# EAGLE library part D-SUB25- (library con-thomas-betts)
D-Subminiatur Connector Source: Electronioc Interconnects European Edition 1998
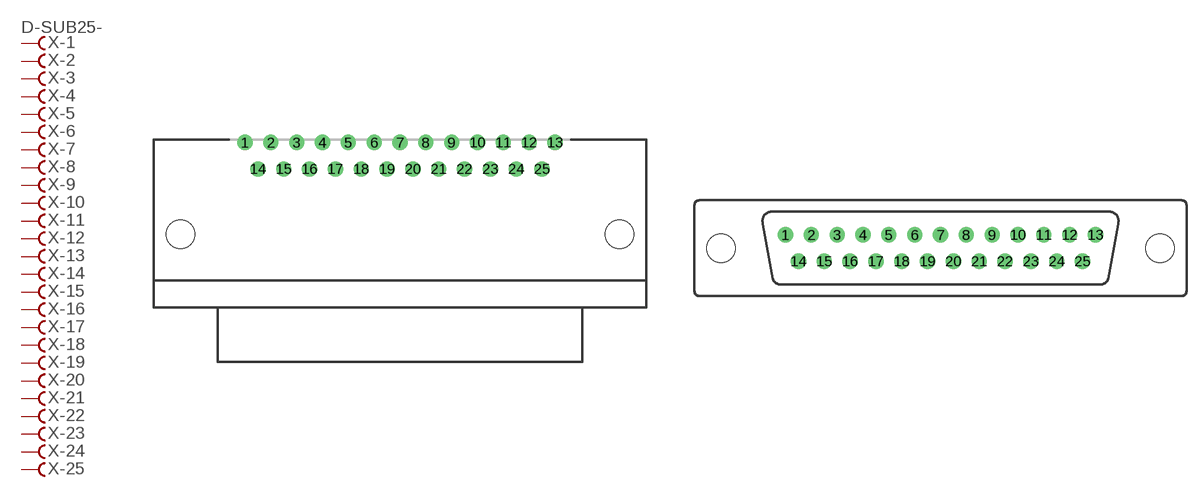
[diagram p21: symbol with the pads of H2M25RA; footprints H2M25RA, H2M25ST]

Designator prefix X; gates -1=FV -2=F -3=F -4=F -5=F -6=F -7=F -8=F -9=F -10=F -11=F -12=F -13=F -14=F -15=F -16=F -17=F -18=F -19=F -20=F -21=F -22=F -23=F -24=F -25=F

## D-SUB25-H2M25RA  [H2M25RA]
1  -1:F  pas
2  -2:F  pas
3  -3:F  pas
4  -4:F  pas
5  -5:F  pas
6  -6:F  pas
7  -7:F  pas
8  -8:F  pas
9  -9:F  pas
10  -10:F  pas
11  -11:F  pas
12  -12:F  pas
13  -13:F  pas
14  -14:F  pas
15  -15:F  pas
16  -16:F  pas
17  -17:F  pas
18  -18:F  pas
19  -19:F  pas
20  -20:F  pas
21  -21:F  pas
22  -22:F  pas
23  -23:F  pas
24  -24:F  pas
25  -25:F  pas

## D-SUB25-H2M25ST  [H2M25ST]
Pads as for H2M25RA

## D-SUB25-H2R25RA  [H2R25RA]
Pads as for H2M25RA

## D-SUB25-H2R25ST  [H2R25ST]
Pads as for H2M25RA

## D-SUB25-H3M25RA  [H3M25RA]
Pads as for H2M25RA

## D-SUB25-H5M25RA  [H5M25RA]
Pads as for H2M25RA

## D-SUB25-H5R25RA  [H5R25RA]
Pads as for H2M25RA

## Footprint H2M25RA (pad centres in mm)
THOMAS&BETTS H2M25RA29A
drill 1.092 round: 1 -16.612,7.925; 2 -13.843,7.925; 3 -11.074,7.925; 4 -8.306,7.925; 5 -5.537,7.925; 6 -2.769,7.925; 7 0,7.925; 8 2.769,7.925; 9 5.537,7.925; 10 8.306,7.925; 11 11.074,7.925; 12 13.843,7.925; 13 16.612,7.925; 14 -15.227,5.08; 15 -12.459,5.08; 16 -9.69,5.08; 17 -6.921,5.08; 18 -4.153,5.08; 19 -1.384,5.08; 20 1.384,5.08; 21 4.153,5.08; 22 6.921,5.08; 23 9.69,5.08; 24 12.459,5.08; 25 15.227,5.08
hole 3.048 at -23.52,-1.905
hole 3.048 at 23.52,-1.905

## Footprint H2M25ST (pad centres in mm)
THOMAS&BETTS H2M25ST29x
drill 1.092 round: 1 -16.612,1.422; 2 -13.843,1.422; 3 -11.074,1.422; 4 -8.306,1.422; 5 -5.537,1.422; 6 -2.769,1.422; 7 0,1.422; 8 2.769,1.422; 9 5.537,1.422; 10 8.306,1.422; 11 11.074,1.422; 12 13.843,1.422; 13 16.612,1.422; 14 -15.227,-1.422; 15 -12.459,-1.422; 16 -9.69,-1.422; 17 -6.921,-1.422; 18 -4.153,-1.422; 19 -1.384,-1.422; 20 1.384,-1.422; 21 4.153,-1.422; 22 6.921,-1.422; 23 9.69,-1.422; 24 12.459,-1.422; 25 15.227,-1.422
hole 3.048 at -23.52,0
hole 3.048 at 23.52,0

## Footprint H2R25RA (pad centres in mm)
THOMAS&BETTS H2R25RA29A
drill 1.092 round: 1 16.612,7.925; 2 13.843,7.925; 3 11.074,7.925; 4 8.306,7.925; 5 5.537,7.925; 6 2.769,7.925; 7 0,7.925; 8 -2.769,7.925; 9 -5.537,7.925; 10 -8.306,7.925; 11 -11.074,7.925; 12 -13.843,7.925; 13 -16.612,7.925; 14 15.227,5.08; 15 12.459,5.08; 16 9.69,5.08; 17 6.921,5.08; 18 4.153,5.08; 19 1.384,5.08; 20 -1.384,5.08; 21 -4.153,5.08; 22 -6.921,5.08; 23 -9.69,5.08; 24 -12.459,5.08; 25 -15.227,5.08
hole 3.048 at -23.52,-1.905
hole 3.048 at 23.52,-1.905

## Footprint H2R25ST (pad centres in mm)
THOMAS&BETTS H2R25ST29x
drill 1.092 round: 1 16.612,1.422; 2 13.843,1.422; 3 11.074,1.422; 4 8.306,1.422; 5 5.537,1.422; 6 2.769,1.422; 7 0,1.422; 8 -2.769,1.422; 9 -5.537,1.422; 10 -8.306,1.422; 11 -11.074,1.422; 12 -13.843,1.422; 13 -16.612,1.422; 14 15.227,-1.422; 15 12.459,-1.422; 16 9.69,-1.422; 17 6.921,-1.422; 18 4.153,-1.422; 19 1.384,-1.422; 20 -1.384,-1.422; 21 -4.153,-1.422; 22 -6.921,-1.422; 23 -9.69,-1.422; 24 -12.459,-1.422; 25 -15.227,-1.422
hole 3.048 at -23.52,0
hole 3.048 at 23.52,0

## Footprint H3M25RA (pad centres in mm)
THOMAS&BETTS H3M25RA29A
drill 1.092 round: 1 -16.612,1.422; 2 -13.843,1.422; 3 -11.074,1.422; 4 -8.306,1.422; 5 -5.537,1.422; 6 -2.769,1.422; 7 0,1.422; 8 2.769,1.422; 9 5.537,1.422; 10 8.306,1.422; 11 11.074,1.422; 12 13.843,1.422; 13 16.612,1.422; 14 -15.227,-1.422; 15 -12.459,-1.422; 16 -9.69,-1.422; 17 -6.921,-1.422; 18 -4.153,-1.422; 19 -1.384,-1.422; 20 1.384,-1.422; 21 4.153,-1.422; 22 6.921,-1.422; 23 9.69,-1.422; 24 12.459,-1.422; 25 15.227,-1.422
hole 3.048 at -23.52,0
hole 3.048 at 23.52,0

## Footprint H5M25RA (pad centres in mm)
THOMAS&BETTS H5M25RA29A
drill 1.092 round: 1 -16.612,1.422; 2 -13.843,1.422; 3 -11.074,1.422; 4 -8.306,1.422; 5 -5.537,1.422; 6 -2.769,1.422; 7 0,1.422; 8 2.769,1.422; 9 5.537,1.422; 10 8.306,1.422; 11 11.074,1.422; 12 13.843,1.422; 13 16.612,1.422; 14 -15.227,-1.422; 15 -12.459,-1.422; 16 -9.69,-1.422; 17 -6.921,-1.422; 18 -4.153,-1.422; 19 -1.384,-1.422; 20 1.384,-1.422; 21 4.153,-1.422; 22 6.921,-1.422; 23 9.69,-1.422; 24 12.459,-1.422; 25 15.227,-1.422
hole 3.048 at -23.52,0
hole 3.048 at 23.52,0

## Footprint H5R25RA (pad centres in mm)
THOMAS&BETTS H5R25RA29A
drill 1.092 round: 1 16.612,1.422; 2 13.843,1.422; 3 11.074,1.422; 4 8.306,1.422; 5 5.537,1.422; 6 2.769,1.422; 7 0,1.422; 8 -2.769,1.422; 9 -5.537,1.422; 10 -8.306,1.422; 11 -11.074,1.422; 12 -13.843,1.422; 13 -16.612,1.422; 14 15.227,-1.422; 15 12.459,-1.422; 16 9.69,-1.422; 17 6.921,-1.422; 18 4.153,-1.422; 19 1.384,-1.422; 20 -1.384,-1.422; 21 -4.153,-1.422; 22 -6.921,-1.422; 23 -9.69,-1.422; 24 -12.459,-1.422; 25 -15.227,-1.422
hole 3.048 at -23.52,0
hole 3.048 at 23.52,0